# Altium footprint library PINPAD.PCBLIB: 151 footprints (part 1 of 10)
Each footprint in its own frame and in the unit in brackets; x right, y up, seen from the top. Pads: shape width x height; smd on the part's side, far side on the other; paste and mask are expansions set on the pad; w line width, h text height; cw(c..) or ccw(c..) is an arc to the next point about the centre after c.
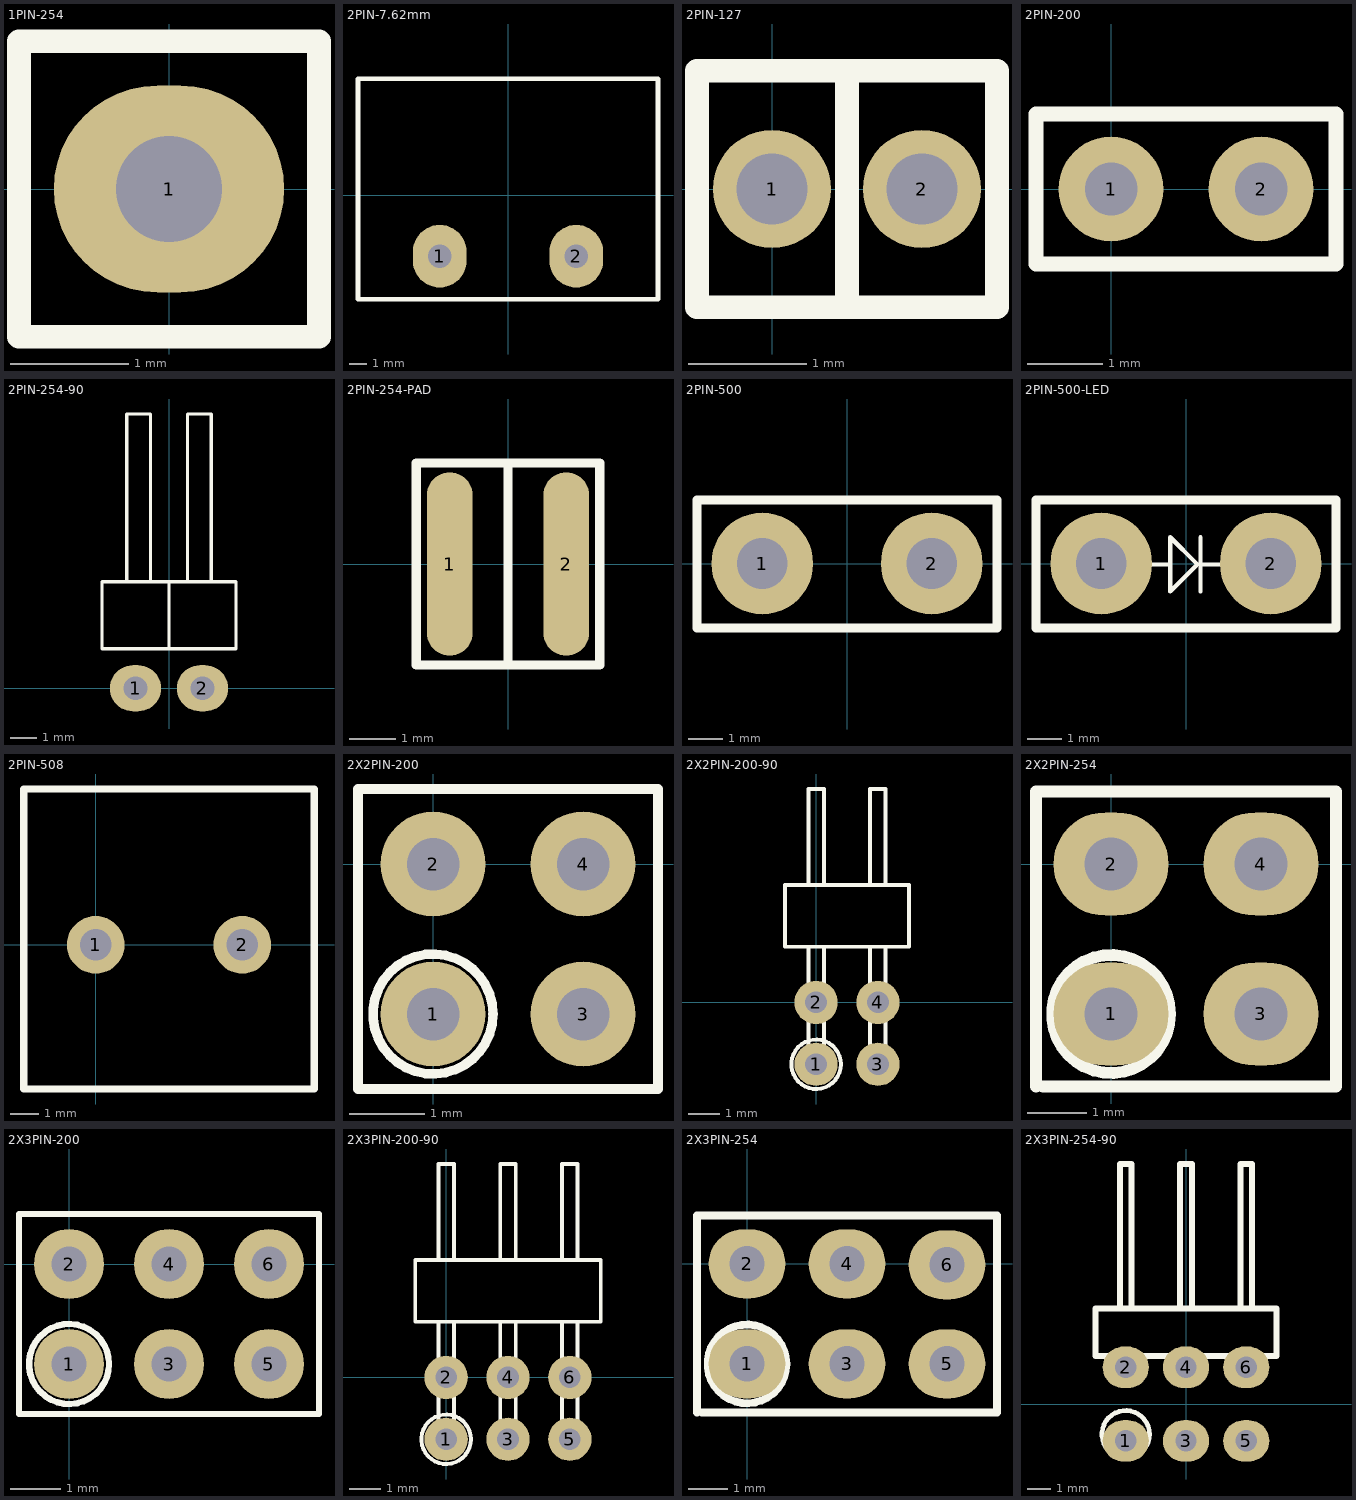
[diagram p0: the footprints below, top view; thin cyan lines are the x and y axes]

## 1PIN-254 [mm]
pads (1):
  oval 1.95x1.75 hole 0.9: 1(0,0)
TopOverlay:
  lines w0.2: -1.27,-1.25 -1.27,1.25 1.27,1.25 1.27,-1.25 -1.27,-1.25

## 2PIN-7.62mm [mm] "2PIN-7.62mm"
pads (2):
  oval 3x3.5 hole 1.3: 1(-3.81,-3.4) 2(3.81,-3.4)
TopOverlay:
  lines w0.254: -8.37,-5.8 8.37,-5.8 8.37,6.5 -8.37,6.5 -8.37,-5.8

## 2PIN-127 [mm]
pads (2):
  round 1 hole 0.6: 1(0,0) 2(1.27,0)
TopOverlay:
  lines w0.2: 0.635,-1 0.635,1 ; -0.635,-1 1.905,-1 1.905,1 -0.635,1 -0.635,-1

## 2PIN-200 [mm]
pads (2):
  round 1.4 hole 0.7: 1(0,0) 2(2,0)
TopOverlay:
  lines w0.2: -1,-1 3,-1 3,1 -1,1 -1,-1

## 2PIN-254-90 [mm]
pads (2):
  oval 1.95x1.75 hole 0.9: 1(-1.27,0) 2(1.27,0)
TopOverlay:
  lines w0.127: -1.6,4.04 -1.6,10.4 -0.7,10.4 -0.7,4.04 ; 0,1.5 0,4.04 ; 0.7,4.04 0.7,10.4 1.6,10.4 1.6,4.04 ; -2.54,1.5 -2.54,4.04 2.54,4.04 2.54,1.5 -2.54,1.5

## 2PIN-254-PAD [mm]
pads (2):
  oval 1x4 smd: 1(-1.27,0) 2(1.27,0)
TopOverlay:
  lines w0.2: 0,-2.2 0,2.2 ; -2,-2.2 2,-2.2 2,2.2 -2,2.2 -2,-2.2

## 2PIN-500 [mm]
pads (2):
  round 3 hole 1.5: 1(-2.5,0) 2(2.5,0)
TopOverlay:
  lines w0.254: -4.425,-1.9 4.425,-1.9 4.425,1.875 -4.425,1.875 -4.425,-1.9

## 2PIN-500-LED [mm]
pads (2):
  round 3 hole 1.5: 1(-2.5,0) 2(2.5,0)
TopOverlay:
  lines w0.127: -1.95,-0.025 -0.464,-0.025 ; 0.311,-0.05 -0.464,-0.825 -0.464,0.775 0.311,0 ; 0.425,-0.825 0.425,0.775 ; 0.425,-0.025 2.025,-0.025
  lines w0.254: -4.425,-1.9 4.425,-1.9 4.425,1.875 -4.425,1.875 -4.425,-1.9

## 2PIN-508 [mm] "2PIN-508"
pads (2):
  round 2 hole 1.1: 1(0,0) 2(5.08,0)
TopOverlay:
  lines w0.254: -2.5,-5 7.58,-5 7.58,5.4 -2.5,5.4 -2.5,-5

## 2X2PIN-200 [mm]
pads (4):
  round 1.4 hole 0.7: 1(0,-2) 2(0,0) 3(2,-2) 4(2,0)
TopOverlay:
  circle w0.127: c0,-2 r0.8
  lines w0.127: -1,-3 -1,1 3,1 3,-3 -1,-3

## 2X2PIN-200-90 [mm]
pads (4):
  round 1.4 hole 0.7: 1(0,-2) 2(0,0) 3(2,-2) 4(2,0)
TopOverlay:
  circle w0.127: c0,-2 r0.8
  lines w0.127: -0.25,-2 -0.25,1.8 ; -0.25,3.8 -0.25,6.9 0.25,6.9 0.25,3.8 ; 0.25,-2 0.25,1.8 ; 1.75,-2 1.75,1.8 ; 1.75,3.8 1.75,6.9 2.25,6.9 2.25,3.8 ; 2.25,-2 2.25,1.8 ; -1,1.8 -1,3.8 3,3.8 3,1.8 -1,1.8

## 2X2PIN-254 [mm]
pads (4):
  oval 1.95x1.75 hole 0.9: 1(0,-2.54) 2(0,0) 3(2.54,-2.54) 4(2.54,0)
TopOverlay:
  circle w0.2: c0,-2.54 r1
  lines w0.2: -1.27,-3.77 -1.27,1.23 3.81,1.23 3.81,-3.77 -1.15,-3.77

## 2X3PIN-200 [mm]
pads (6):
  round 1.4 hole 0.7: 1(0,-2) 2(0,0) 3(2,-2) 4(2,0) 5(4,-2) 6(4,0)
TopOverlay:
  circle w0.127: c0,-2 r0.8
  lines w0.127: -1,-3 5,-3 5,1 -1,1 -1,-3

## 2X3PIN-200-90 [mm]
pads (6):
  round 1.4 hole 0.7: 1(0,-2) 2(0,0) 3(2,-2) 4(2,0) 5(4,-2) 6(4,0)
TopOverlay:
  circle w0.127: c0,-2 r0.8
  lines w0.127: -0.25,-2 -0.25,1.8 ; -0.25,3.8 -0.25,6.9 0.25,6.9 0.25,3.8 ; 0.25,-2 0.25,1.8 ; 1.75,-2 1.75,1.8 ; 1.75,3.8 1.75,6.9 2.25,6.9 2.25,3.8 ; 2.25,-2 2.25,1.8 ; 3.75,-2 3.75,1.8 ; 3.75,3.8 3.75,6.9 4.25,6.9 4.25,3.8 ; 4.25,-2 4.25,1.8 ; -1,1.8 -1,3.8 5,3.8 5,1.8 -1,1.8

## 2X3PIN-254 [mm]
pads (6):
  oval 1.95x1.75 hole 0.9: 1(0,-2.54) 2(0,0) 3(2.54,-2.54) 4(2.54,0) 5(5.08,-2.54) 6(5.08,-0.025)
TopOverlay:
  circle w0.2: c0,-2.54 r1
  lines w0.2: -1.27,-3.77 -1.27,1.23 6.35,1.23 ; -1.15,-3.77 6.35,-3.77 ; 6.35,-3.775 6.35,1.225

## 2X3PIN-254-90 [mm]
pads (6):
  oval 1.95x1.75 hole 0.9: 1(-2.54,-1.55) 2(-2.54,1.55) 3(0,-1.55) 4(0,1.55) 5(2.54,-1.55) 6(2.54,1.55)
TopOverlay:
  circle w0.2: c-2.54,-1.27 r1
  lines w0.254: -2.79,4.02 -2.79,10.12 -2.29,10.12 -2.29,4.02 ; -0.25,4.02 -0.25,10.12 0.25,10.12 0.25,4.02 ; 2.29,4.02 2.29,10.12 2.79,10.12 2.79,4.02 ; -3.81,2.02 3.81,2.02 3.81,4.02 -3.81,4.02 -3.81,2.02